# EAGLE library part FSA553UCX (library SamacSys_Parts)
Dual SPST Depletion Switch; Normally Closed when VCC < 0.2 V; Switches Configurable through Select Pins; VSW: -1.5 V to +1.5 V; RON: 0.4 (Typical); RFLAT < 0.01 (Typical); THD+N: -104 dB (Typical); OIRR: -78 dB (Typical) Source: Datasheet <https://www.onsemi.com/pub/Collateral/FSA553-D.PDF>
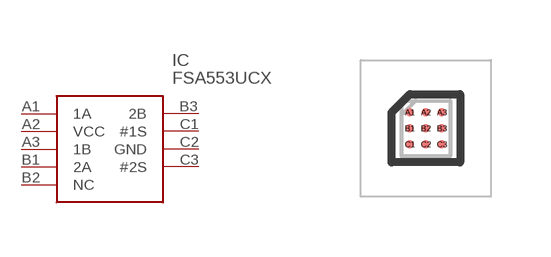
[diagram p27: symbol with the pads of BGA9C40P3X3_122X138X62; footprint BGA9C40P3X3_122X138X62]

Designator prefix IC

## FSA553UCX (DESCRIPTION: Dual SPST Depletion Switch; Normally Closed when VCC < 0.2 V; Switches Configurable through Select Pins; VSW: -1.5 V to +1.5 V; RON: 0.4 (Typical); RFLAT < 0.01 (Typical); THD+N: -104 dB (Typical); OIRR: -78 dB (Typical); HEIGHT: 0.619mm; MANUFACTURER_NAME: onsemi; MANUFACTURER_PART_NUMBER: FSA553UCX; MOUSER_PART_NUMBER: 512-FSA553UCX; MOUSER_PRICE-STOCK: https://www.mouser.co.uk/ProductDetail/ON-Semiconductor-Fairchild/FSA553UCX?qs=EpB3LTCD8CjPBURLika8XQ%3D%3D)  [BGA9C40P3X3_122X138X62]
A1  1A
A2  VCC
A3  1B
B1  2A
B2  NC  nc
B3  2B
C1  #1S
C2  GND
C3  #2S

## Footprint BGA9C40P3X3_122X138X62 (pad centres in mm)
FSA551UCX
smd 0.208 x 0.208: A1 -0.4,0.4; A2 0,0.4; A3 0.4,0.4; B1 -0.4,0; B2 0,0; B3 0.4,0; C1 -0.4,-0.4; C2 0,-0.4; C3 0.4,-0.4